# EAGLE library part SMF05C (library NSL_Tracker-2.0)
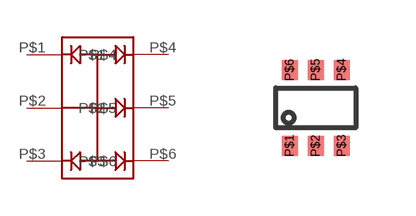
[diagram p3: symbol with the pads of SC-88; footprint SC-88]

Designator prefix -

## SMF05C  [SC-88]
P$1  P$1
P$2  P$2
P$3  P$3
P$4  P$4
P$5  P$5
P$6  P$6

## Footprint SC-88 (pad centres in mm)
smd 0.4 x 0.5: P$1 -0.65,-0.95; P$2 0,-0.95; P$3 0.65,-0.95; P$4 0.65,0.95; P$5 0,0.95; P$6 -0.65,0.95